# Altium schematic symbol library cpu.SchLib: 11 symbols
Pins are listed as number, name and electrical type; pins without a type are passive.

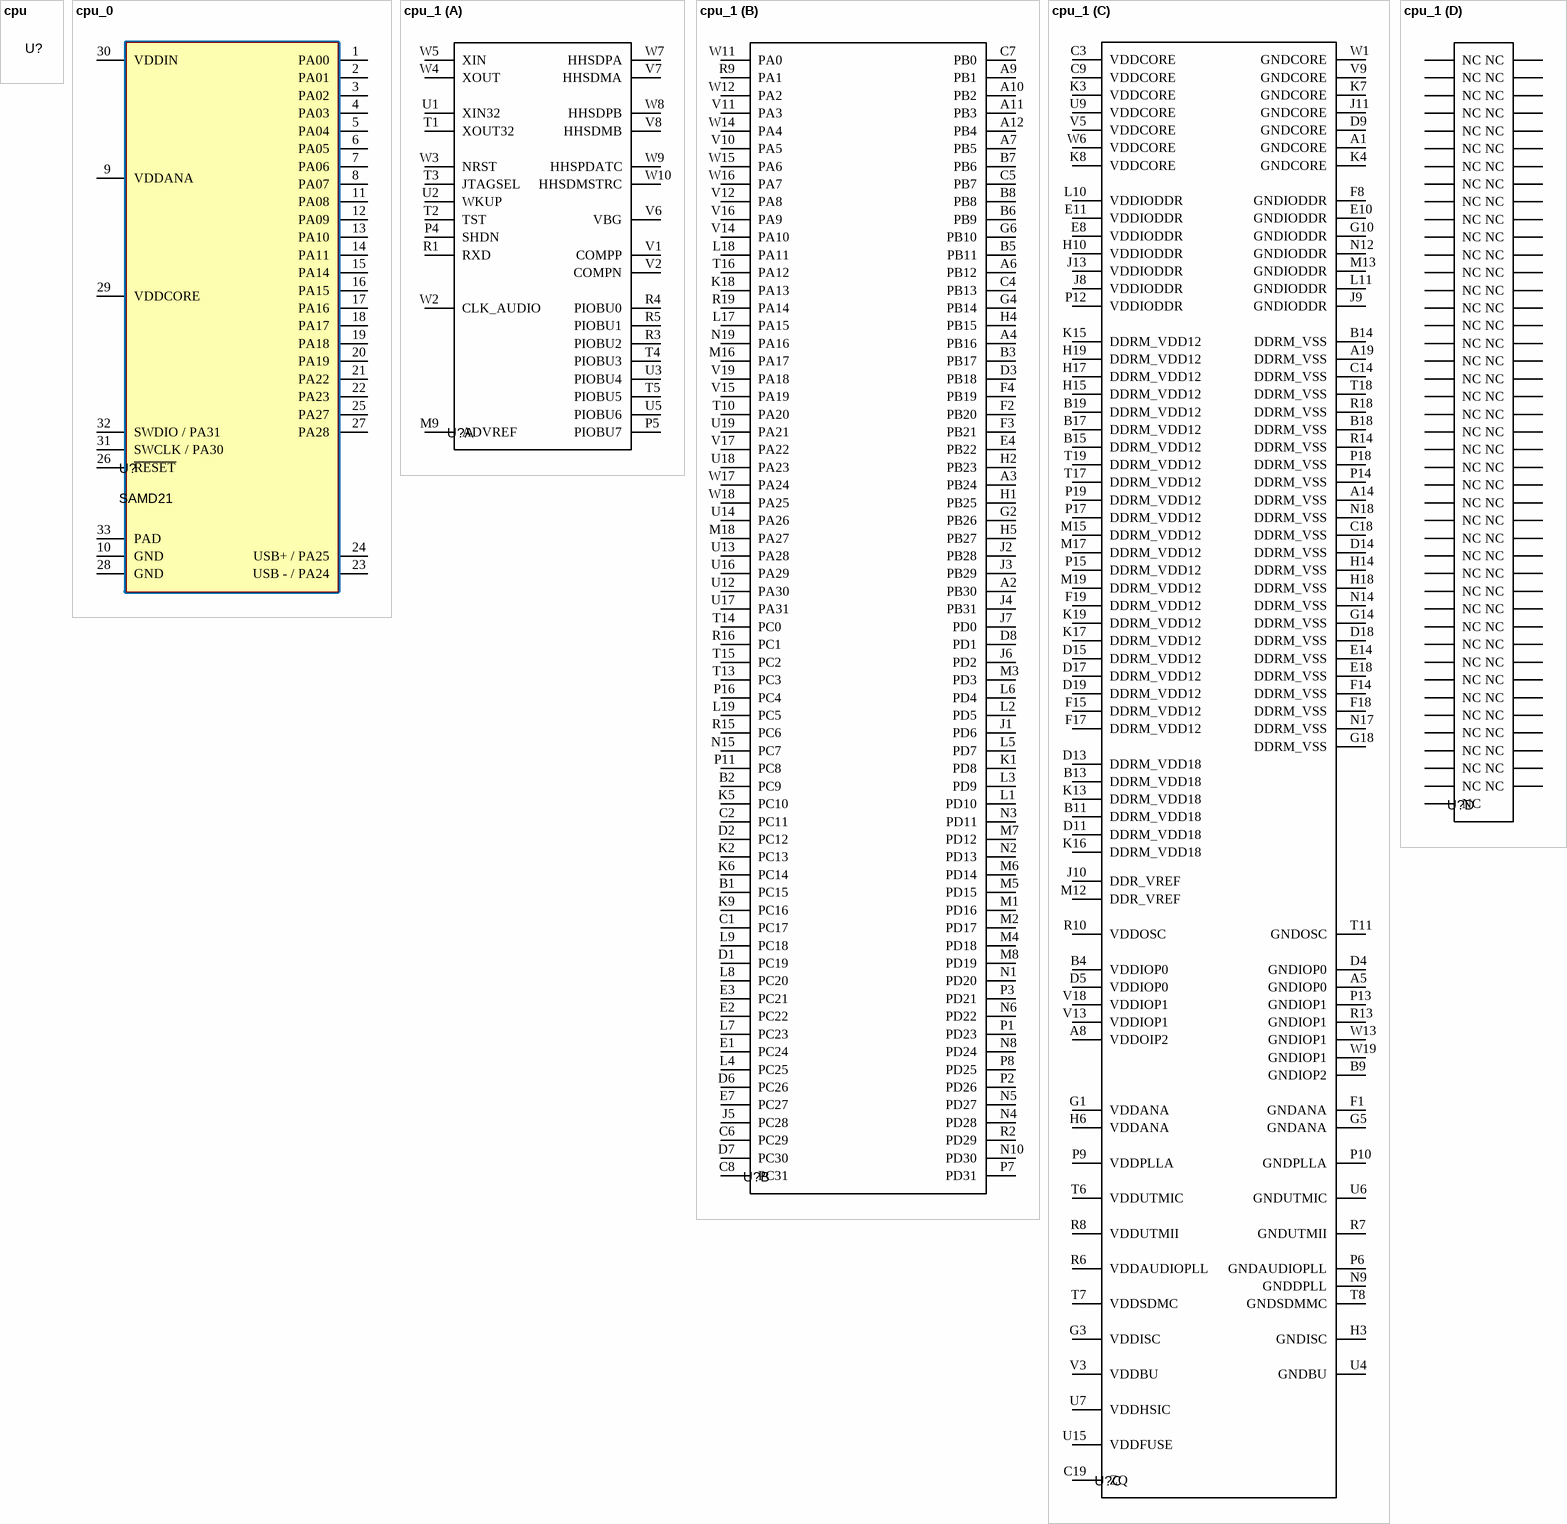
[diagram p0: symbols cpu to cpu_1]

## cpu
designator U?
Template

## cpu_0
designator U?, comment SAMD21
SAMD21, 48 MHz, 128KB flash, 16KB RAM, 32 pins, USB device, QFN; Manufacturer 1: Microchip Technology; Manufacturer Part Number 1: ATSAMD21E17D-MUT; Supplier 1: Digi-Key; Supplier Part Number 1: ATSAMD21E17D-MUTTR-ND; Link: https://www.digikey.no/products/no?keywords=ATSAMD21E17D-MUTTR-ND
footprint ATSAMD21E17D-MUT (QFN, 32-Leads, Body 5.00x5.00mm, Pitch 0.50mm, Thermal Pad 3.60x3.60mm, IPC Medium Density)
pins: 1 PA00, 2 PA01, 3 PA02, 4 PA03, 5 PA04, 6 PA05, 7 PA06, 8 PA07, 9 VDDANA, 10 GND, 11 PA08, 12 PA09, 13 PA10, 14 PA11, 15 PA14, 16 PA15, 17 PA16, 18 PA17, 19 PA18, 20 PA19, 21 PA22, 22 PA23, 23 USB - / PA24, 24 USB+ / PA25, 25 PA27, 26 ~{RESET}, 27 PA28, 28 GND, 29 VDDCORE, 30 VDDIN, 31 SWCLK / PA30, 32 SWDIO / PA31, 33 PAD

## cpu_1
designator U?, comment SAMA5D27 SiP  (value not drawn)
SAMA5D27 SiP, 500 MHz, 2Gb LPDDR2, 361 pins, BGA; Manufacturer 1: Microchip Technology; Manufacturer Part Number 1: ATSAMA5D27C-LD2G-CUR; Supplier 1: Arrow Electronics; Supplier Part Number 1: ATSAMA5D27C-LD2G-CUR; Link: https://www.arrow.com/en/products/atsama5d27c-ld2g-cur/microchip-technology?utm_term=instock&utm_currency=&utm_campaign=arrow_findchips_2021_Americas&utm_medium=aggregator&region=nac&utm_source=findchips&utm_content=inv_listing
footprint ATSAMA5D27C-LD2G-CUR (BGA, 361-Leads, Body 16.00x16.00mmx1.20mm, Pitch 0.80mm)
part A pins: M9 ADVREF, P4 SHDN, P5 PIOBU7, R1 RXD, R3 PIOBU2, R4 PIOBU0, R5 PIOBU1, T1 XOUT32, T2 TST, T3 JTAGSEL, T4 PIOBU3, T5 PIOBU5, U1 XIN32, U2 WKUP, U3 PIOBU4, U5 PIOBU6, V1 COMPP, V2 COMPN, V6 VBG, V7 HHSDMA, V8 HHSDMB, W2 CLK_AUDIO, W3 NRST, W4 XOUT, W5 XIN, W7 HHSDPA, W8 HHSDPB, W9 HHSPDATC, W10 HHSDMSTRC
part B pins: A2 PB30, A3 PB24, A4 PB16, A6 PB12, A7 PB5, A9 PB1, A10 PB2, A11 PB3, A12 PB4, B1 PC15, B2 PC9, B3 PB17, B5 PB11, B6 PB9, B7 PB6, B8 PB8, C1 PC17, C2 PC11, C4 PB13, C5 PB7, C6 PC29, C7 PB0, C8 PC31, D1 PC19, D2 PC12, D3 PB18, D6 PC26, D7 PC30, D8 PD1, E1 PC24, E2 PC22, E3 PC21, E4 PB22, E7 PC27, F2 PB20, F3 PB21, F4 PB19, G2 PB26, G4 PB14, G6 PB10, H1 PB25, H2 PB23, H4 PB15, H5 PB27, J1 PD6, J2 PB28, J3 PB29, J4 PB31, J5 PC28, J6 PD2, J7 PD0, K1 PD8, K2 PC13, K5 PC10, K6 PC14, K9 PC16, K18 PA13, L1 PD10, L2 PD5, L3 PD9, L4 PC25, L5 PD7, L6 PD4, L7 PC23, L8 PC20, L9 PC18, L17 PA15, L18 PA11, L19 PC5, M1 PD16, M2 PD17, M3 PD3, M4 PD18, M5 PD15, M6 PD14, M7 PD12, M8 PD19, M16 PA17, M18 PA27, N1 PD20, N2 PD13, N3 PD11, N4 PD28, N5 PD27, N6 PD22, N8 PD24, N10 PD30, N15 PC7, N19 PA16, P1 PD23, P2 PD26, P3 PD21, P7 PD31, P8 PD25, P11 PC8, P16 PC4, R2 PD29, R9 PA1, R15 PC6, R16 PC1, R19 PA14, T10 PA20, T13 PC3, T14 PC0, T15 PC2, T16 PA12, U12 PA30, U13 PA28, U14 PA26, U16 PA29, U17 PA31, U18 PA23, U19 PA21, V10 PA5, V11 PA3, V12 PA8, V14 PA10, V15 PA19, V16 PA9, V17 PA22, V19 PA18, W11 PA0, W12 PA2, W14 PA4, W15 PA6, W16 PA7, W17 PA24, W18 PA25
part C pins: A1 GNDCORE, A5 GNDIOP0, A8 VDDOIP2, A14 DDRM_VSS, A19 DDRM_VSS, B4 VDDIOP0, B9 GNDIOP2, B11 DDRM_VDD18, B13 DDRM_VDD18, B14 DDRM_VSS, B15 DDRM_VDD12, B17 DDRM_VDD12, B18 DDRM_VSS, B19 DDRM_VDD12, C3 VDDCORE, C9 VDDCORE, C14 DDRM_VSS, C18 DDRM_VSS, C19 ZQ, D4 GNDIOP0, D5 VDDIOP0, D9 GNDCORE, D11 DDRM_VDD18, D13 DDRM_VDD18, D14 DDRM_VSS, D15 DDRM_VDD12, D17 DDRM_VDD12, D18 DDRM_VSS, D19 DDRM_VDD12, E8 VDDIODDR, E10 GNDIODDR, E11 VDDIODDR, E14 DDRM_VSS, E18 DDRM_VSS, F1 GNDANA, F8 GNDIODDR, F14 DDRM_VSS, F15 DDRM_VDD12, F17 DDRM_VDD12, F18 DDRM_VSS, F19 DDRM_VDD12, G1 VDDANA, G3 VDDISC, G5 GNDANA, G10 GNDIODDR, G14 DDRM_VSS, G18 DDRM_VSS, H3 GNDISC, H6 VDDANA, H10 VDDIODDR, H14 DDRM_VSS, H15 DDRM_VDD12, H17 DDRM_VDD12, H18 DDRM_VSS, H19 DDRM_VDD12, J8 VDDIODDR, J9 GNDIODDR, J10 DDR_VREF, J11 GNDCORE, J13 VDDIODDR, K3 VDDCORE, K4 GNDCORE, K7 GNDCORE, K8 VDDCORE, K13 DDRM_VDD18, K15 DDRM_VDD12, K16 DDRM_VDD18, K17 DDRM_VDD12, K19 DDRM_VDD12, L10 VDDIODDR, L11 GNDIODDR, M12 DDR_VREF, M13 GNDIODDR, M15 DDRM_VDD12, M17 DDRM_VDD12, M19 DDRM_VDD12, N9 GNDDPLL, N12 GNDIODDR, N14 DDRM_VSS, N17 DDRM_VSS, N18 DDRM_VSS, P6 GNDAUDIOPLL, P9 VDDPLLA, P10 GNDPLLA, P12 VDDIODDR, P13 GNDIOP1, P14 DDRM_VSS, P15 DDRM_VDD12, P17 DDRM_VDD12, P18 DDRM_VSS, P19 DDRM_VDD12, R6 VDDAUDIOPLL, R7 GNDUTMII, R8 VDDUTMII, R10 VDDOSC, R13 GNDIOP1, R14 DDRM_VSS, R18 DDRM_VSS, T6 VDDUTMIC, T7 VDDSDMC, T8 GNDSDMMC, T11 GNDOSC, T17 DDRM_VDD12, T18 DDRM_VSS, T19 DDRM_VDD12, U4 GNDBU, U6 GNDUTMIC, U7 VDDHSIC, U9 VDDCORE, U15 VDDFUSE, V3 VDDBU, V5 VDDCORE, V9 GNDCORE, V13 VDDIOP1, V18 VDDIOP1, W1 GNDCORE, W6 VDDCORE, W13 GNDIOP1, W19 GNDIOP1
part D pins: A13 NC, A15 NC, A16 NC, A17 NC, A18 NC, B10 NC, B12 NC, B16 NC, C10 NC, C11 NC, C12 NC, C13 NC, C15 NC, C16 NC, C17 NC, D10 NC, D12 NC, D16 NC, E5 NC, E6 NC, E9 NC, E12 NC, E13 NC, E15 NC, E16 NC, E17 NC, E19 NC, F5 NC, F6 NC, F7 NC, F9 NC, F10 NC, F11 NC, F12 NC, F13 NC, F16 NC, G7 NC, G8 NC, G9 NC, G11 NC, G12 NC, G13 NC, G15 NC, G16 NC, G17 NC, G19 NC, H7 NC, H8 NC, H9 NC, H11 NC, H12 NC, H13 NC, H16 NC, J12 NC, J14 NC, J15 NC, J16 NC, J17 NC, J18 NC, J19 NC, K10 NC, K11 NC, K12 NC, K14 NC, L12 NC, L13 NC, L14 NC, L15 NC, L16 NC, M10 NC, M11 NC, M14 NC, N7 NC, N11 NC, N13 NC, N16 NC, R11 NC, R12 NC, R17 NC, T9 NC, T12 NC, U8 NC, U10 NC, U11 NC, V4 NC

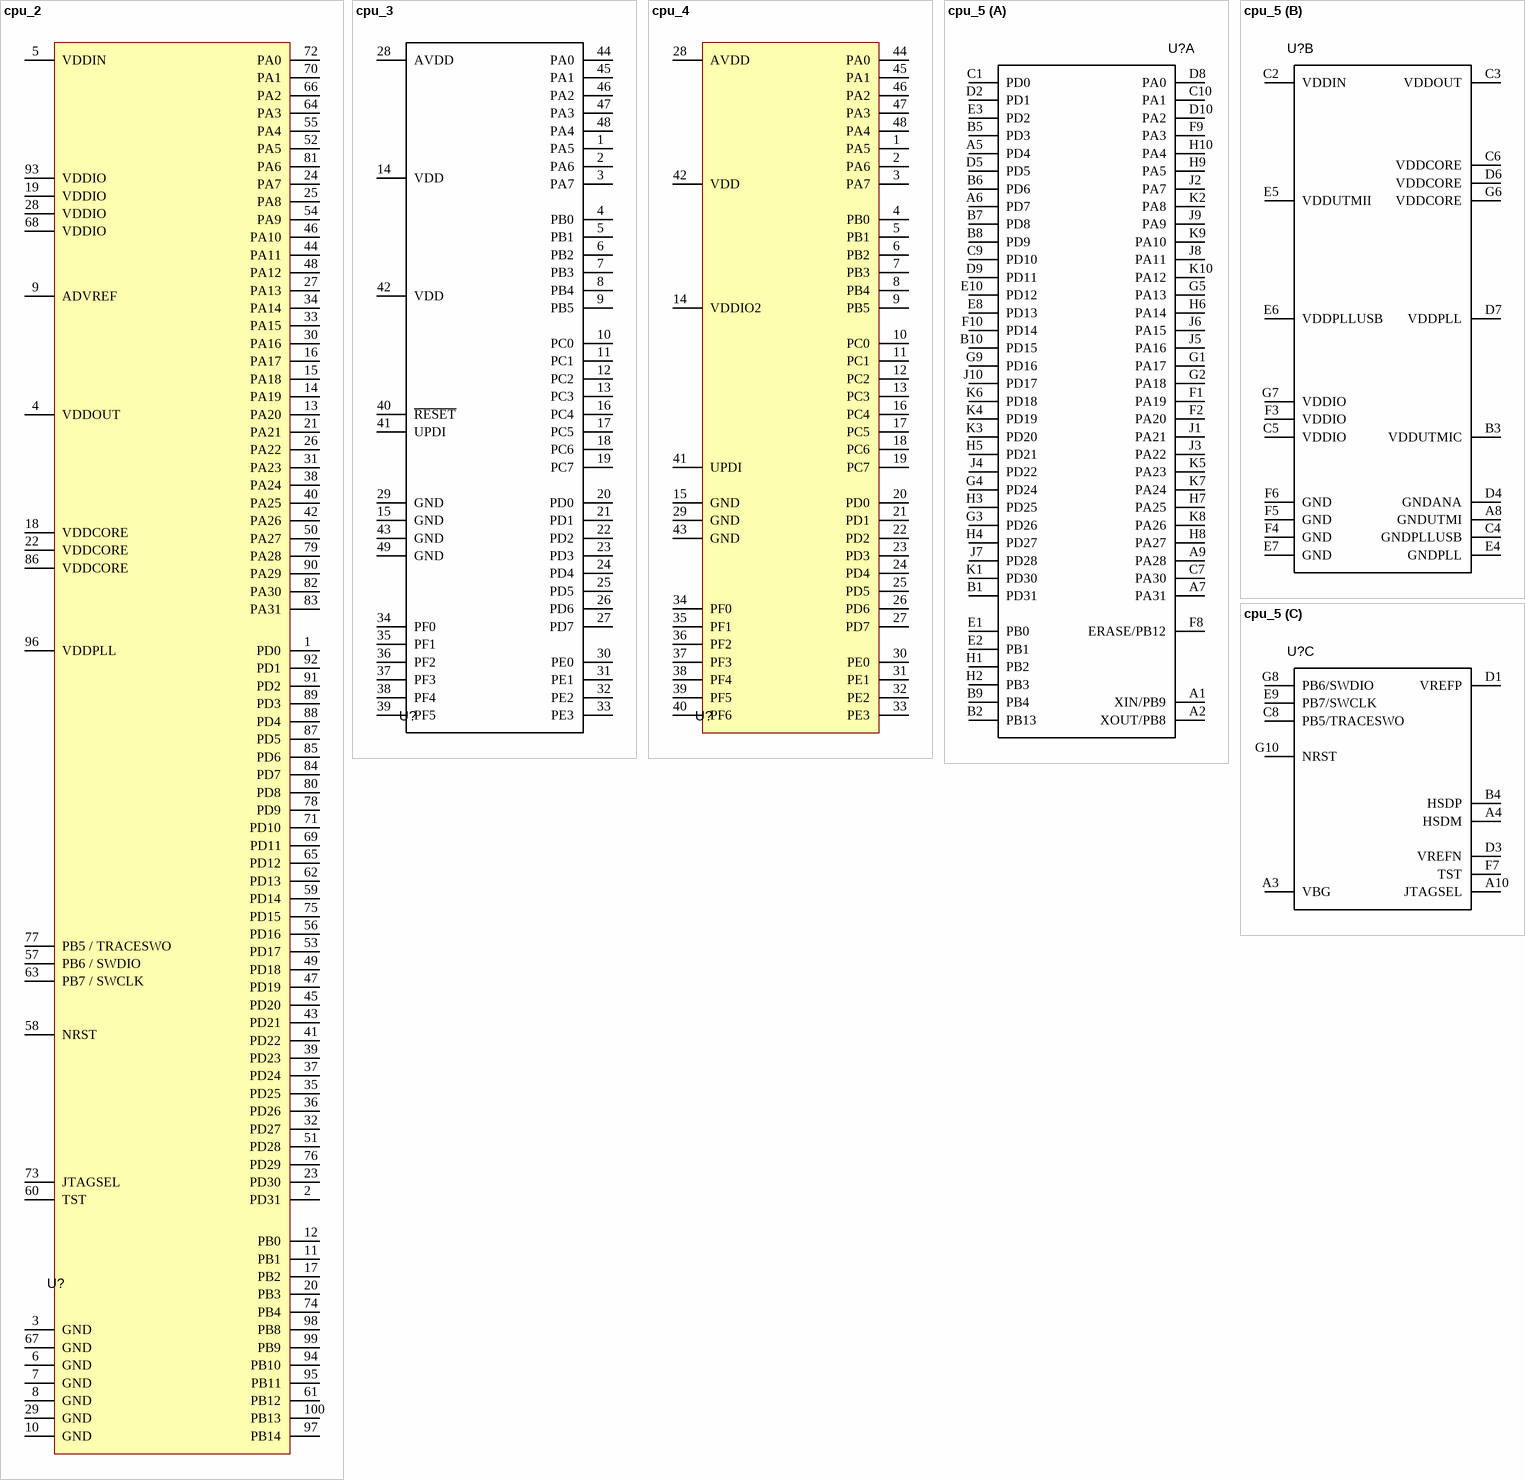
[diagram p1: symbols cpu_2 to cpu_5]

## cpu_2
designator U?, comment SAM4E8C  (value not drawn)
SAM4E, 120 MHz, 512KB flash, 128KB RAM, 100 pins, USB  device, Ethernet, TQFP; Manufacturer 1: Microchip Technology; Manufacturer Part Number 1: ATSAM4E8CB-ANR; Supplier 1: Digi-Key; Supplier Part Number 1: ATSAM4E8CB-ANRTR-ND; Link: https://www.digikey.no/product-detail/no/microchip-technology/ATSAM4E8CB-ANR/ATSAM4E8CB-ANRTR-ND/8594964
footprint ATSAM4E8CB-ANR (TSQFP, 100-Leads, Body 14.00x14.00mm, Pitch 0.50mm, IPC Medium Density)
pins: 1 PD0, 2 PD31, 3 GND, 4 VDDOUT, 5 VDDIN, 6 GND, 7 GND, 8 GND, 9 ADVREF, 10 GND, 11 PB1, 12 PB0, 13 PA20, 14 PA19, 15 PA18, 16 PA17, 17 PB2, 18 VDDCORE, 19 VDDIO, 20 PB3, 21 PA21, 22 VDDCORE, 23 PD30, 24 PA7, 25 PA8, 26 PA22, 27 PA13, 28 VDDIO, 29 GND, 30 PA16, 31 PA23, 32 PD27, 33 PA15, 34 PA14, 35 PD25, 36 PD26, 37 PD24, 38 PA24, 39 PD23, 40 PA25, 41 PD22, 42 PA26, 43 PD21, 44 PA11, 45 PD20, 46 PA10, 47 PD19, 48 PA12, 49 PD18, 50 PA27, 51 PD28, 52 PA5, 53 PD17, 54 PA9, 55 PA4, 56 PD16, 57 PB6 / SWDIO, 58 NRST, 59 PD14, 60 TST, 61 PB12, 62 PD13, 63 PB7 / SWCLK, 64 PA3, 65 PD12, 66 PA2, 67 GND, 68 VDDIO, 69 PD11, 70 PA1, 71 PD10, 72 PA0, 73 JTAGSEL, 74 PB4, 75 PD15, 76 PD29, 77 PB5 / TRACESWO, 78 PD9, 79 PA28, 80 PD8, 81 PA6, 82 PA30, 83 PA31, 84 PD7, 85 PD6, 86 VDDCORE, 87 PD5, 88 PD4, 89 PD3, 90 PA29, 91 PD2, 92 PD1, 93 VDDIO, 94 PB10, 95 PB11, 96 VDDPLL, 97 PB14, 98 PB8, 99 PB9, 100 PB13

## cpu_3
designator U?, comment ATmega4809  (value not drawn)
ATMEGA4809, 20MHz, 48KB flash, 6KB RAM, 48 pins, QFN; Manufacturer 1: Microchip Technology; Manufacturer Part Number 1: ATMEGA4809-MFR; Supplier 1: Digi-Key; Supplier Part Number 1: ATMEGA4809-MFRCT-ND; Link: https://www.digikey.no/product-detail/en/microchip-technology/ATMEGA4809-MFR/ATMEGA4809-MFRCT-ND/9342194
footprint ATMEGA4809-MFR (QFN, 48-Leads, Body 6.00x6.00mm, Pitch 0.40mm, Thermal Pad 4.10x4.10mm, IPC Medium Density)
pins: 1 PA5, 2 PA6, 3 PA7, 4 PB0, 5 PB1, 6 PB2, 7 PB3, 8 PB4, 9 PB5, 10 PC0, 11 PC1, 12 PC2, 13 PC3, 14 VDD, 15 GND, 16 PC4, 17 PC5, 18 PC6, 19 PC7, 20 PD0, 21 PD1, 22 PD2, 23 PD3, 24 PD4, 25 PD5, 26 PD6, 27 PD7, 28 AVDD, 29 GND, 30 PE0, 31 PE1, 32 PE2, 33 PE3, 34 PF0, 35 PF1, 36 PF2, 37 PF3, 38 PF4, 39 PF5, 40 ~{RESET}, 41 UPDI, 42 VDD, 43 GND, 44 PA0, 45 PA1, 46 PA2, 47 PA3, 48 PA4, 49 GND

## cpu_4
designator U?
AVR128DB48, 24MHz, 128KB flash, 16KB RAM, 48 pins, QFN; Manufacturer 1: Microchip Technology; Manufacturer Part Number 1: AVR128DB48T-E/6LX; Supplier 1: Digi-Key; Supplier Part Number 1: 150-AVR128DB48T-E/6LXCT-ND; Link: https://www.digikey.no/product-detail/en/microchip-technology/AVR128DB48T-E-6LX/150-AVR128DB48T-E-6LXCT-ND/13537080
footprint AVR128DB48T-I/6LX (QFN, 48-Leads, Body 6.00x6.00mm, Pitch 0.40mm, Thermal Pad 4.10x4.10mm, IPC Medium Density)
pins: 1 PA5, 2 PA6, 3 PA7, 4 PB0, 5 PB1, 6 PB2, 7 PB3, 8 PB4, 9 PB5, 10 PC0, 11 PC1, 12 PC2, 13 PC3, 14 VDDIO2, 15 GND, 16 PC4, 17 PC5, 18 PC6, 19 PC7, 20 PD0, 21 PD1, 22 PD2, 23 PD3, 24 PD4, 25 PD5, 26 PD6, 27 PD7, 28 AVDD, 29 GND, 30 PE0, 31 PE1, 32 PE2, 33 PE3, 34 PF0, 35 PF1, 36 PF2, 37 PF3, 38 PF4, 39 PF5, 40 PF6, 41 UPDI, 42 VDD, 43 GND, 44 PA0, 45 PA1, 46 PA2, 47 PA3, 48 PA4

## cpu_5
designator U?
SAME70N19, 300MHz, 512KB flash, 384KB RAM, 100 pins, TFBGA; Manufacturer 1: Microchip Technology; Manufacturer Part Number 1: ATSAME70N19B-CN; Supplier 1: Digi-Key; Supplier Part Number 1: ATSAME70N19B-CN-ND; Link: https://www.digikey.no/no/products/detail/microchip-technology/ATSAME70N19B-CN/9342071
footprint ATSAME70N19B-CN (BGA, 100-Leads, Body 9.00x9.00mmx1.10mm, Pitch 0.80mm)
part A pins: A1 XIN/PB9, A2 XOUT/PB8, A5 PD4, A6 PD7, A7 PA31, A9 PA28, B1 PD31, B2 PB13, B5 PD3, B6 PD6, B7 PD8, B8 PD9, B9 PB4, B10 PD15, C1 PD0, C7 PA30, C9 PD10, C10 PA1, D2 PD1, D5 PD5, D8 PA0, D9 PD11, D10 PA2, E1 PB0, E2 PB1, E3 PD2, E8 PD13, E10 PD12, F1 PA19, F2 PA20, F8 ERASE/PB12, F9 PA3, F10 PD14, G1 PA17, G2 PA18, G3 PD26, G4 PD24, G5 PA13, G9 PD16, H1 PB2, H2 PB3, H3 PD25, H4 PD27, H5 PD21, H6 PA14, H7 PA25, H8 PA27, H9 PA5, H10 PA4, J1 PA21, J2 PA7, J3 PA22, J4 PD22, J5 PA16, J6 PA15, J7 PD28, J8 PA11, J9 PA9, J10 PD17, K1 PD30, K2 PA8, K3 PD20, K4 PD19, K5 PA23, K6 PD18, K7 PA24, K8 PA26, K9 PA10, K10 PA12
part B pins: A8 GNDUTMI, B3 VDDUTMIC, C2 VDDIN, C3 VDDOUT, C4 GNDPLLUSB, C5 VDDIO, C6 VDDCORE, D4 GNDANA, D6 VDDCORE, D7 VDDPLL, E4 GNDPLL, E5 VDDUTMII, E6 VDDPLLUSB, E7 GND, F3 VDDIO, F4 GND, F5 GND, F6 GND, G6 VDDCORE, G7 VDDIO
part C pins: A3 VBG, A4 HSDM, A10 JTAGSEL, B4 HSDP, C8 PB5/TRACESWO, D1 VREFP, D3 VREFN, E9 PB7/SWCLK, F7 TST, G8 PB6/SWDIO, G10 NRST

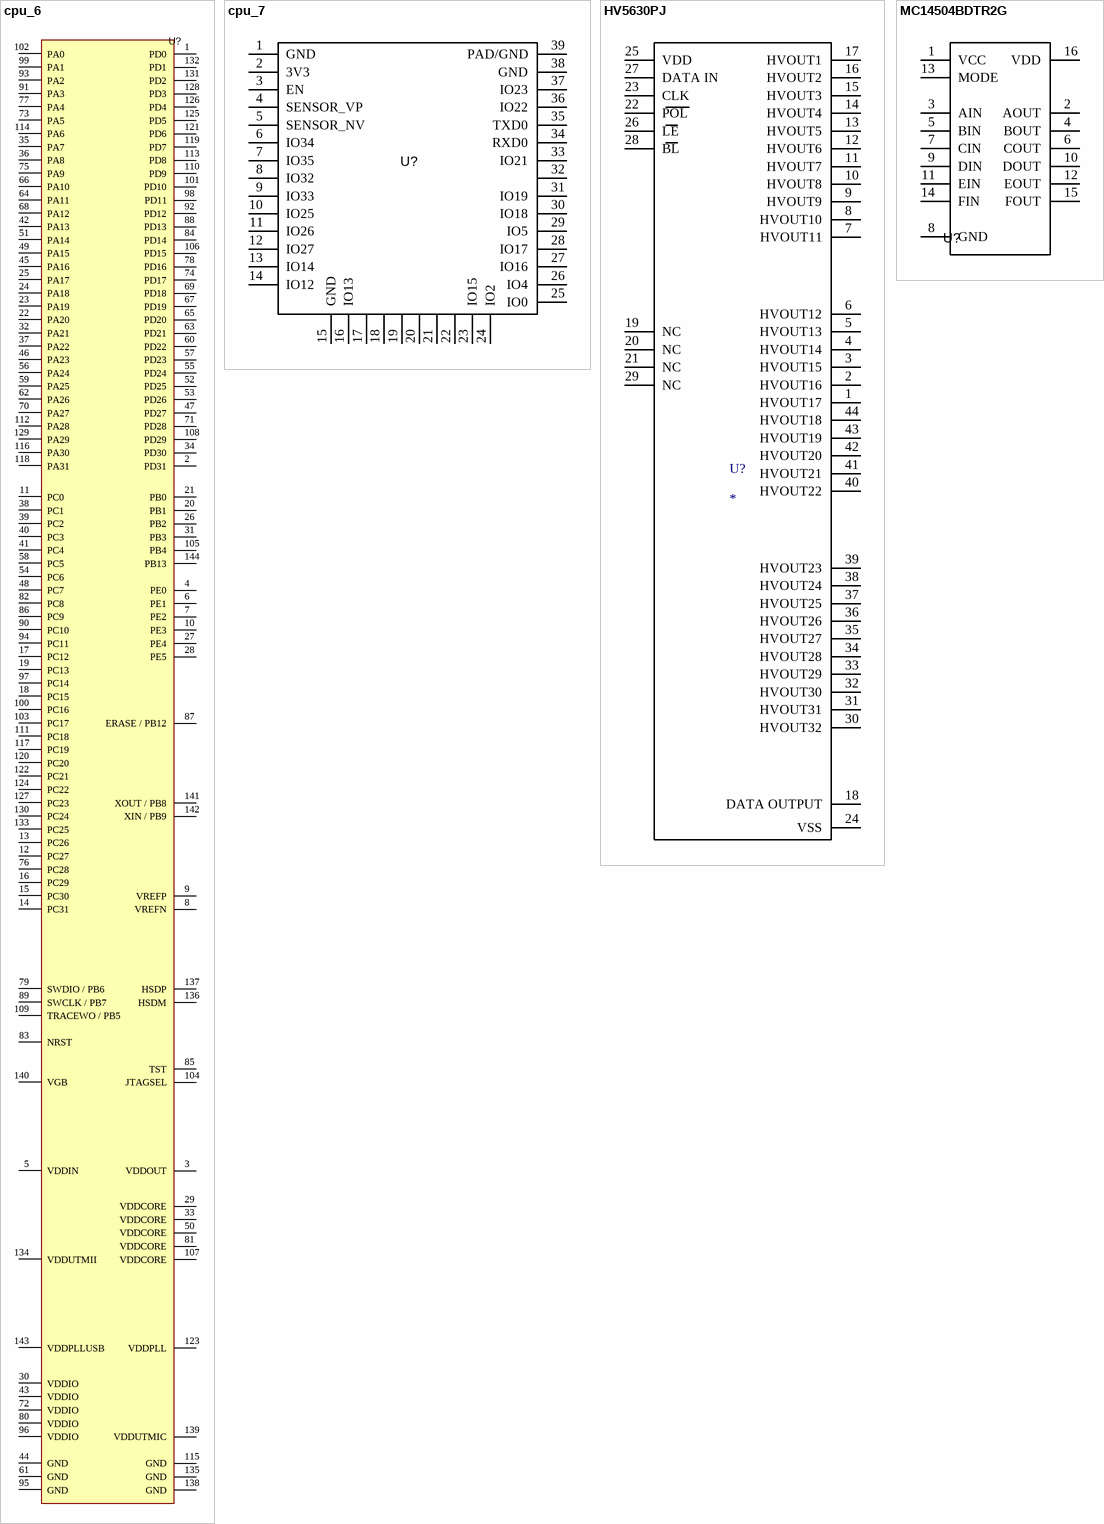
[diagram p2: symbols cpu_6 to MC14504BDTR2G]

## cpu_6
designator U?
SAME70Q19, 300MHz, 512KB flash, 384KB RAM, 144 pins, TQFP; Manufacturer 1: Microchip Technology; Manufacturer Part Number 1: ATSAME70Q19B-AN; Supplier 1: RS-components; Supplier Part Number 1: https://no.rs-online.com/web/p/microcontrollers/1682835p?cm_mmc=aff-_-no-_-findchip-_-1682835P&utm_medium=buyNow&utm_source=supplyFrame; Link: https://no.rs-online.com/web/p/microcontrollers/1682835p?cm_mmc=aff-_-no-_-findchip-_-1682835P&utm_medium=buyNow&utm_source=supplyFrame
footprint ATSAME70Q19B-AN (TSQFP, 144-Leads, Body 20.00x20.00mm, Pitch 0.50mm, IPC Medium Density)
pins: 1 PD0, 2 PD31, 3 VDDOUT, 4 PE0, 5 VDDIN, 6 PE1, 7 PE2, 8 VREFN, 9 VREFP, 10 PE3, 11 PC0, 12 PC27, 13 PC26, 14 PC31, 15 PC30, 16 PC29, 17 PC12, 18 PC15, 19 PC13, 20 PB1, 21 PB0, 22 PA20, 23 PA19, 24 PA18, 25 PA17, 26 PB2, 27 PE4, 28 PE5, 29 VDDCORE, 30 VDDIO, 31 PB3, 32 PA21, 33 VDDCORE, 34 PD30, 35 PA7, 36 PA8, 37 PA22, 38 PC1, 39 PC2, 40 PC3, 41 PC4, 42 PA13, 43 VDDIO, 44 GND, 45 PA16, 46 PA23, 47 PD27, 48 PC7, 49 PA15, 50 VDDCORE, 51 PA14, 52 PD25, 53 PD26, 54 PC6, 55 PD24, 56 PA24, 57 PD23, 58 PC5, 59 PA25, 60 PD22, 61 GND, 62 PA26, 63 PD21, 64 PA11, 65 PD20, 66 PA10, 67 PD19, 68 PA12, 69 PD18, 70 PA27, 71 PD28, 72 VDDIO, 73 PA5, 74 PD17, 75 PA9, 76 PC28, 77 PA4, 78 PD16, 79 SWDIO / PB6, 80 VDDIO, 81 VDDCORE, 82 PC8, 83 NRST, 84 PD14, 85 TST, 86 PC9, 87 ERASE / PB12, 88 PD13, 89 SWCLK / PB7, 90 PC10, 91 PA3, 92 PD12, 93 PA2, 94 PC11, 95 GND, 96 VDDIO, 97 PC14, 98 PD11, 99 PA1, 100 PC16, 101 PD10, 102 PA0, 103 PC17, 104 JTAGSEL, 105 PB4, 106 PD15, 107 VDDCORE, 108 PD29, 109 TRACEWO / PB5, 110 PD9, 111 PC18, 112 PA28, 113 PD8, 114 PA6, 115 GND, 116 PA30, 117 PC19, 118 PA31, 119 PD7, 120 PC20, 121 PD6, 122 PC21, 123 VDDPLL, 124 PC22, 125 PD5, 126 PD4, 127 PC23, 128 PD3, 129 PA29, 130 PC24, 131 PD2, 132 PD1, 133 PC25, 134 VDDUTMII, 135 GND, 136 HSDM, 137 HSDP, 138 GND, 139 VDDUTMIC, 140 VGB, 141 XOUT / PB8, 142 XIN / PB9, 143 VDDPLLUSB, 144 PB13

## cpu_7
designator U?
ESP32-WROOM-32; ComponentLink1Description: New link; ComponentLink1URL: https://www.digikey.no/no/products/detail/espressif-systems/ESP32-WROOM-32E-H4/12696413
footprint ESP32-WROOM-32
pins: 1 GND, 2 3V3, 3 EN, 4 SENSOR_VP, 5 SENSOR_NV, 6 IO34, 7 IO35, 8 IO32, 9 IO33, 10 IO25, 11 IO26, 12 IO27, 13 IO14, 14 IO12, 15 GND, 16 IO13, 17, 18, 19, 20, 21, 22, 23 IO15, 24 IO2, 25 IO0, 26 IO4, 27 IO16, 28 IO17, 29 IO5, 30 IO18, 31 IO19, 32, 33 IO21, 34 RXD0, 35 TXD0, 36 IO22, 37 IO23, 38 GND, 39 PAD/GND

## HV5630PJ
designator U?
footprint HV5630PJ (Leaded Chip Carrier, 44-Leads, Body 17.53x17.53mm, Pitch 1.270mm, IPC Medium Density)
pins: 1 HVOUT17, 2 HVOUT16, 3 HVOUT15, 4 HVOUT14, 5 HVOUT13, 6 HVOUT12, 7 HVOUT11, 8 HVOUT10, 9 HVOUT9, 10 HVOUT8, 11 HVOUT7, 12 HVOUT6, 13 HVOUT5, 14 HVOUT4, 15 HVOUT3, 16 HVOUT2, 17 HVOUT1, 18 DATA OUTPUT, 19 NC, 20 NC, 21 NC, 22 POL, 23 CLK, 24 VSS, 25 VDD, 26 LE, 27 DATA IN, 28 BL, 29 NC, 30 HVOUT32, 31 HVOUT31, 32 HVOUT30, 33 HVOUT29, 34 HVOUT28, 35 HVOUT27, 36 HVOUT26, 37 HVOUT25, 38 HVOUT24, 39 HVOUT23, 40 HVOUT22, 41 HVOUT21, 42 HVOUT20, 43 HVOUT19, 44 HVOUT18

## MC14504BDTR2G
designator U?
Level shifter, 3.3V to 12V; Link: https://www.digikey.no/en/products/detail/onsemi/MC14504BDTR2G/1478864
footprint MC14504BDTR2G (TSOP, 16-Leads, Body 5.00x4.40mm, Pitch 0.65mm, IPC Medium Density)
pins: 1 VCC, 2 AOUT, 3 AIN, 4 BOUT, 5 BIN, 6 COUT, 7 CIN, 8 GND, 9 DIN, 10 DOUT, 11 EIN, 12 EOUT, 13 MODE, 14 FIN, 15 FOUT, 16 VDD